# Altium footprint library TSSOP-24_WIDE.PcbLib: 2 footprints
Each footprint in its own frame and in the unit in brackets; x right, y up, seen from the top. Pads: shape width x height; smd on the part's side, far side on the other; paste and mask are expansions set on the pad; w line width, h text height; cw(c..) or ccw(c..) is an arc to the next point about the centre after c.
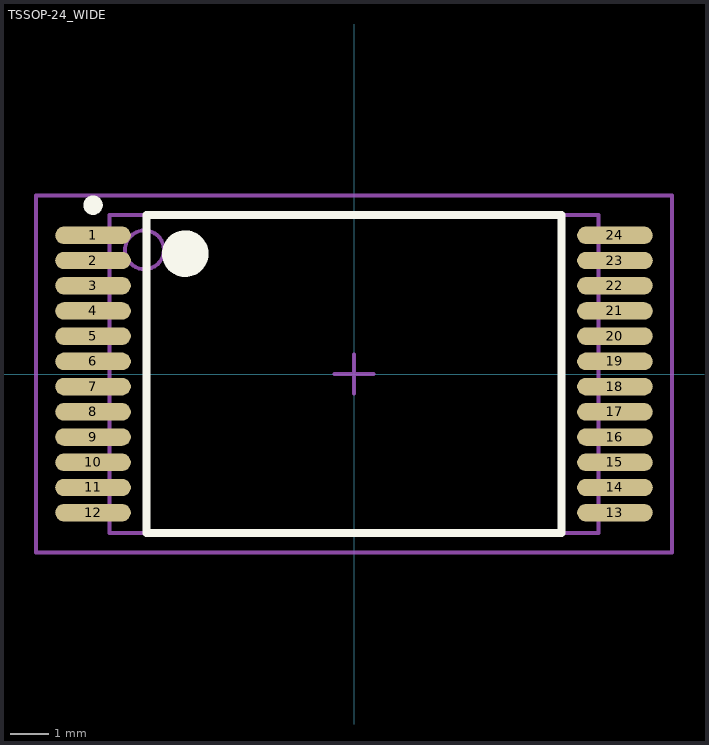
[diagram p0: the footprints below, top view; thin cyan lines are the x and y axes]

## PCBComponent_1 [mm]

## TSSOP-24_WIDE [mm] "TSOP, 24-Leads, Body 8.2x12.6mm, Pitch 0.65mm, IPC Low Density"
height 1.27
pads (24):
  oval 1.95x0.45 smd: 1(-6.725,3.575) 2(-6.725,2.925) 3(-6.725,2.275) 4(-6.725,1.625) 5(-6.725,0.975) 6(-6.725,0.325) 7(-6.725,-0.325) 8(-6.725,-0.975) 9(-6.725,-1.625) 10(-6.725,-2.275) 11(-6.725,-2.925) 12(-6.725,-3.575) 13(6.725,-3.575) 14(6.725,-2.925) 15(6.725,-2.275) 16(6.725,-1.625) 17(6.725,-0.975) 18(6.725,-0.325) 19(6.725,0.325) 20(6.725,0.975) 21(6.725,1.625) 22(6.725,2.275) 23(6.725,2.925) 24(6.725,3.575)
Top Overlay:
  circle w0.6: c-4.35,3.1 r0.3
  circle w0.25: c-6.725,4.35 r0.125
  lines w0.2: -5.35,-4.1 5.35,-4.1 5.35,4.1 -5.35,4.1 -5.35,-4.1
Mechanical 13:
  circle w0.1: c-5.4,3.2 r0.5
  lines w0.1: -6.3,-4.1 6.3,-4.1 6.3,4.1 -6.3,4.1 -6.3,-4.1
Mechanical 15:
  lines w0.1: -0.5,0 0.5,0 ; 0,-0.5 0,0.5 ; -8.2,-4.6 8.2,-4.6 8.2,4.6 -8.2,4.6 -8.2,-4.6
3D body: height 1.27, standoff 0, extent -6.3,-4.1 6.3,4.1